# Altium footprint library hsbest2.PcbLib: 365 footprints (part 19 of 23)
Each footprint in its own frame and in the unit in brackets; x right, y up, seen from the top. Pads: shape width x height; smd on the part's side, far side on the other; paste and mask are expansions set on the pad; w line width, h text height; cw(c..) or ccw(c..) is an arc to the next point about the centre after c.
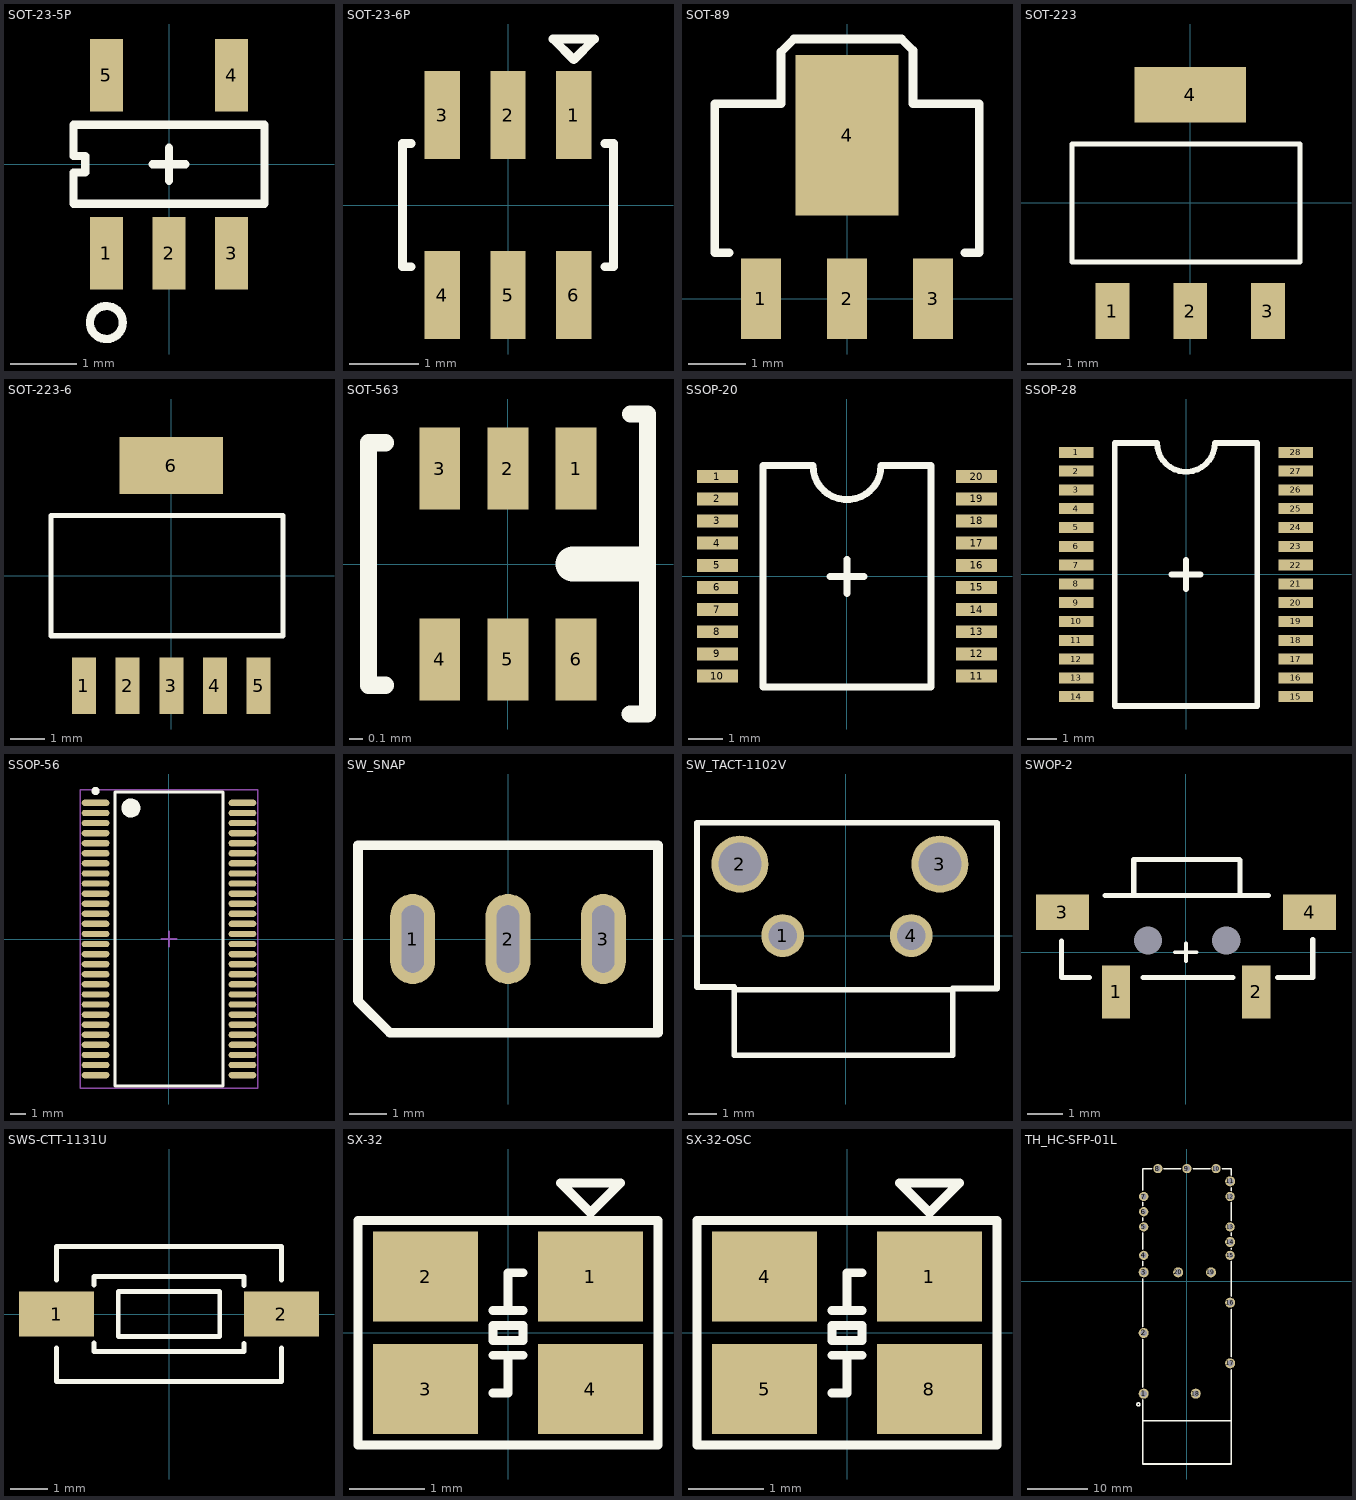
[diagram p18: the footprints below, top view; thin cyan lines are the x and y axes]

## SOT-23-5P [mm]
pads (5):
  rect 0.5x1.1 smd: 1(-0.95,-1.35) 2(0,-1.35) 3(0.95,-1.35) 4(0.95,1.35) 5(-0.95,1.35)
Top Overlay:
  circle w0.125: c-0.95,-2.4 r0.25
  lines w0.125: -0.25,0 0.25,0 ; 0,-0.25 0,0.25 ; -1.45,-0.6 -1.45,-0.125 -1.269,-0.125 -1.269,0.125 -1.45,0.125 -1.45,0.6 1.45,0.6 1.45,-0.6 -1.45,-0.6

## SOT-23-6P [mm]
pads (6):
  rect 0.508x1.27 smd: 1(0.95,1.3) 2(0,1.3) 3(-0.95,1.3) 4(-0.95,-1.3) 5(0,-1.3) 6(0.95,-1.3)
Top Overlay:
  lines w0.125: -1.397,-0.889 -1.524,-0.889 -1.524,0.889 -1.397,0.889 ; 1.397,-0.889 1.524,-0.889 1.524,0.889 1.397,0.889 ; 0.65,2.4 0.95,2.1 1.25,2.4 0.65,2.4

## SOT-89 [mm]
pads (4):
  rect 0.7x1.4 smd: 1(-1.5,0) 2(0,0) 3(1.5,0)
  rect 1.8x2.8 smd: 4(0,2.85)
Top Overlay:
  lines w0.15: -2.05,0.8 -2.3,0.8 -2.3,3.4 -1.15,3.4 -1.15,4.3 -0.925,4.525 0.95,4.525 1.15,4.325 1.15,3.4 2.3,3.4 2.3,0.8 2.05,0.8

## SOT-223 [mm]
pads (4):
  rect 1x1.65 smd: 1(-2.3,-3.2) 2(0,-3.2) 3(2.3,-3.2)
  rect 3.3x1.65 smd: 4(0,3.2)
Top Overlay:
  lines w0.15: -3.5,-1.75 3.25,-1.75 3.25,1.75 -3.5,1.75 -3.5,-1.75

## SOT-223-6 [mm]
pads (6):
  rect 0.7x1.65 smd: 1(-2.54,-3.2) 2(-1.27,-3.2) 3(0,-3.2) 4(1.27,-3.2) 5(2.54,-3.2)
  rect 3x1.65 smd: 6(0,3.2)
Top Overlay:
  lines w0.15: -3.5,-1.75 -3.5,1.75 3.25,1.75 3.25,-1.75 -3.5,-1.75

## SOT-563 [mm]
pads (6):
  rect 0.3x0.6 smd: 1(0.5,0.7) 2(0,0.7) 3(-0.5,0.7) 4(-0.5,-0.7) 5(0,-0.7) 6(0.5,-0.7)
Top Overlay:
  lines w0.125: -0.897,-0.889 -1.024,-0.889 -1.024,0.889 -0.897,0.889 ; 0.897,-1.1 1.024,-1.1 1.024,1.1 ; 0.898,1.1 1.025,1.1
  lines w0.254: 0.475,0 0.95,0

## SSOP-20 [mm]
pads (20):
  rect 1.2x0.38 smd: 1(-3.8,2.925) 2(-3.8,2.275) 3(-3.8,1.625) 4(-3.8,0.975) 5(-3.8,0.325) 6(-3.8,-0.325) 7(-3.8,-0.975) 8(-3.8,-1.625) 9(-3.8,-2.275) 10(-3.8,-2.925) 11(3.8,-2.925) 12(3.8,-2.275) 13(3.8,-1.625) 14(3.8,-0.975) 15(3.8,-0.325) 16(3.8,0.325) 17(3.8,0.975) 18(3.8,1.625) 19(3.8,2.275) 20(3.8,2.925)
Top Overlay:
  lines w0.2: -0.5,0 0.5,0 ; 0,-0.5 0,0.5 ; -2.465,-3.25 2.465,-3.25 2.465,3.25 1,3.25 cw(c0,3.25) -1,3.25 -2.465,3.25 -2.465,-3.25

## SSOP-28 [mm]
pads (28):
  rect 1.2x0.38 smd: 1(-3.8,4.225) 2(-3.8,3.575) 3(-3.8,2.925) 4(-3.8,2.275) 5(-3.8,1.625) 6(-3.8,0.975) 7(-3.8,0.325) 8(-3.8,-0.325) 9(-3.8,-0.975) 10(-3.8,-1.625) 11(-3.8,-2.275) 12(-3.8,-2.925) 13(-3.8,-3.575) 14(-3.8,-4.225) 15(3.8,-4.225) 16(3.8,-3.575) 17(3.8,-2.925) 18(3.8,-2.275) 19(3.8,-1.625) 20(3.8,-0.975) 21(3.8,-0.325) 22(3.8,0.325) 23(3.8,0.975) 24(3.8,1.625) 25(3.8,2.275) 26(3.8,2.925) 27(3.8,3.575) 28(3.8,4.225)
Top Overlay:
  lines w0.2: -0.5,0 0.5,0 ; 0,-0.5 0,0.5 ; -2.465,-4.55 -2.465,4.55 -1,4.55 ccw(c0,4.55) 1,4.55 2.465,4.55 2.465,-4.55 -2.465,-4.55

## SSOP-56 [mm] "SOP, 56-Leads, Body 18.4x7.5mm, Pitch 0.635mm, IPC High Density"
height 2.8
pads (56):
  oval 1.75x0.4 smd: 1(-4.625,8.572) 2(-4.625,7.938) 3(-4.625,7.302) 4(-4.625,6.667) 5(-4.625,6.032) 6(-4.625,5.397) 7(-4.625,4.763) 8(-4.625,4.127) 9(-4.625,3.492) 10(-4.625,2.857) 11(-4.625,2.222) 12(-4.625,1.587) 13(-4.625,0.953) 14(-4.625,0.318) 15(-4.625,-0.318) 16(-4.625,-0.953) 17(-4.625,-1.587) 18(-4.625,-2.222) 19(-4.625,-2.857) 20(-4.625,-3.492) 21(-4.625,-4.127) 22(-4.625,-4.763) 23(-4.625,-5.397) 24(-4.625,-6.032) 25(-4.625,-6.667) 26(-4.625,-7.302) 27(-4.625,-7.938) 28(-4.625,-8.572) 29(4.625,-8.572) 30(4.625,-7.938) 31(4.625,-7.302) 32(4.625,-6.667) 33(4.625,-6.032) 34(4.625,-5.397) 35(4.625,-4.763) 36(4.625,-4.127) 37(4.625,-3.492) 38(4.625,-2.857) 39(4.625,-2.222) 40(4.625,-1.587) 41(4.625,-0.953) 42(4.625,-0.318) 43(4.625,0.318) 44(4.625,0.953) 45(4.625,1.587) 46(4.625,2.222) 47(4.625,2.857) 48(4.625,3.492) 49(4.625,4.127) 50(4.625,4.763) 51(4.625,5.397) 52(4.625,6.032) 53(4.625,6.667) 54(4.625,7.302) 55(4.625,7.938) 56(4.625,8.572)
Top Overlay:
  circle w0.25: c-4.625,9.323 r0.125
  circle w0.6: c-2.4,8.25 r0.3
  lines w0.2: -3.4,-9.25 -3.4,9.25 3.4,9.25 3.4,-9.25 -3.4,-9.25
Mechanical 15:
  lines w0.1: -0.5,0 0.5,0 ; 0,-0.5 0,0.5 ; -5.6,-9.4 -5.6,9.4 5.6,9.4 5.6,-9.4 -5.6,-9.4

## SW_SNAP [mm] "温度传感器"
height 1.25
pads (3):
  oval 1.2x2.4 hole 0.6 slot 1.8 at 90 deg: 1(-2.54,0) 2(0,0) 3(2.54,0)
Top Overlay:
  lines w0.254: -4,-1.65 -4,2.5 4,2.5 4,-2.5 -3.15,-2.5 -4,-1.65

## SW_TACT-1102V [mm]
pads (4):
  rrect100% 1.5x1.5 hole 1: 1(-2.214,0) 4(2.286,0)
  rrect100% 2x2 hole 1.5: 2(-3.714,2.5) 3(3.286,2.5)
Top Overlay:
  lines w0.2: -3.914,-4.191 3.736,-4.191 3.736,-3.9 3.736,-4 3.736,-1.95 ; -3.914,-4.1 -3.914,-1.8 -5.214,-1.8 -5.214,3.95 5.286,3.95 5.286,-1.85 3.736,-1.85 3.686,-1.9 -3.914,-1.9

## SWOP-2 [mm]
pads (6):
  rect 0.8x1.5 smd: 1(-1.98,-1.13) 2(1.99,-1.13)
  rect 1.5x1 smd: 3(-3.5,1.13) 4(3.5,1.13)
  round 0.025 hole 0.8 unplated: 5(-1.08,0.33) 6(1.14,0.33)
Top Overlay:
  lines w0.1: -0.32,0 0.31,0 ; 0,-0.254 0,0.254
  lines w0.15: -3.53,0.304 -3.53,-0.72 -2.742,-0.72 ; -2.286,1.6 2.338,1.6 ; -1.218,-0.72 1.322,-0.72 ; 2.592,-0.72 3.59,-0.72 3.59,0.348 ; -1.48,1.62 -1.48,2.61 ; -1.48,1.62 -1.48,2.61 ; -1.48,1.62 -1.48,2.61 ; -1.48,1.62 -1.48,2.61 ; -1.48,1.62 -1.48,2.61 ; -1.48,1.62 -1.48,2.61 ; -1.48,1.62 -1.48,2.61 ; -1.48,1.62 -1.48,2.61 ; -1.48,2.62 1.51,2.62 ; -1.48,2.62 1.51,2.62 ; -1.48,2.62 1.51,2.62 ; -1.48,2.62 1.51,2.62 ; -1.48,2.62 1.51,2.62 ; -1.48,2.62 1.51,2.62 ; -1.48,2.62 1.51,2.62 ; -1.48,2.62 1.51,2.62 ; 1.53,1.61 1.53,2.61 ; 1.53,1.61 1.53,2.61 ; 1.53,1.61 1.53,2.61 ; 1.53,1.61 1.53,2.61 ; 1.53,1.61 1.53,2.61 ; 1.53,1.61 1.53,2.61 ; 1.53,1.61 1.53,2.61 ; 1.53,1.61 1.53,2.61

## SWS-CTT-1131U [mm]
pads (2):
  rect 2x1.2 smd: 1(-3,0) 2(3,0)
Top Overlay:
  lines w0.125: -3,-0.9 -3,-1.8 3,-1.8 3,-0.9 ; -3,0.9 -3,1.8 3,1.8 3,0.9 ; -2,-0.769 -2,-1 2,-1 2,-0.779 ; -2,0.767 -2,1 2,1 2,0.762 ; -1.35,-0.6 1.35,-0.6 1.35,0.6 -1.35,0.6 -1.35,-0.6

## SX-32 [mm]
height 0.6
pads (4):
  rect 1.4x1.2 smd: 1(1.1,0.75) 2(-1.1,0.75) 3(-1.1,-0.75) 4(1.1,-0.75)
Top Overlay:
  lines w0.12: -0.2,-0.8 0,-0.8 0,-0.3 ; -0.2,-0.3 0.2,-0.3 ; -0.2,0.3 0.2,0.3 ; 0,0.3 0,0.8 0.2,0.8 ; -2,-1.5 -2,1.5 ; -2,-1.5 2,-1.5 ; -2,-1.5 -2,1.5 ; -2,-1.5 2,-1.5 ; -2,1.5 2,1.5 ; -2,1.5 2,1.5 ; 2,-1.5 2,1.5 ; 2,-1.5 2,1.5 ; -0.2,-0.1 0.2,-0.1 0.2,0.1 -0.2,0.1 -0.2,-0.1 ; 0.7,2 1.1,1.6 1.5,2 0.7,2

## SX-32-OSC [mm]
height 0.6
pads (4):
  rect 1.4x1.2 smd: 1(1.1,0.75) 4(-1.1,0.75) 5(-1.1,-0.75) 8(1.1,-0.75)
Top Overlay:
  lines w0.12: -0.2,-0.8 0,-0.8 0,-0.3 ; -0.2,-0.3 0.2,-0.3 ; -0.2,0.3 0.2,0.3 ; 0,0.3 0,0.8 0.2,0.8 ; -2,-1.5 -2,1.5 ; -2,-1.5 2,-1.5 ; -2,-1.5 -2,1.5 ; -2,-1.5 2,-1.5 ; -2,1.5 2,1.5 ; -2,1.5 2,1.5 ; 2,-1.5 2,1.5 ; 2,-1.5 2,1.5 ; -0.2,-0.1 0.2,-0.1 0.2,0.1 -0.2,0.1 -0.2,-0.1 ; 0.7,2 1.1,1.6 1.5,2 0.7,2

## TH_HC-SFP-01L [mm]
pads (20):
  round 1.65 hole 1.05 paste+0 mask+0.05: 1(-7.125,-18.55) 2(-7.125,-8.55) 3(-7.125,1.45) 11(7.125,16.45) 14(7.125,6.45) 16(7.125,-3.55) 17(7.125,-13.55) 18(1.455,-18.55) 19(3.955,1.45) 20(-1.445,1.45)
  round 1.524 hole 0.95 paste+0 mask+0.05: 4(-7.125,4.25) 5(-7.125,8.95) 7(-7.125,13.95) 8(-4.795,18.55) 9(0.005,18.55) 10(4.805,18.55) 12(7.125,13.95) 13(7.125,8.95) 15(7.125,4.25)
  round 1.524 hole 0.85 paste+0 mask+0.05: 6(-7.125,11.45)
Top Overlay:
  circle w0.254: c-8.001,-20.32 r0.254
  lines w0.254: -7.3,-19.6 -7.3,-30.15 7.3,-30.15 7.3,-14.65 ; -7.3,-17.5 -7.3,-9.6 ; -7.3,-7.5 -7.3,0.4 ; -7.3,2.5 -7.3,3.263 ; -7.3,5.237 -7.3,7.963 ; -7.3,9.937 -7.3,10.463 ; -7.3,12.437 -7.3,12.963 ; -7.3,14.95 -7.3,18.55 -5.811,18.55 ; -7.239,-23.05 7.239,-23.05 ; -3.779,18.55 -0.985,18.55 ; 1.047,18.55 3.841,18.55 ; 5.8,18.55 7.3,18.55 7.3,17.45 ; 7.3,-12.5 7.3,-4.6 ; 7.3,-2.5 7.3,3.263 ; 7.3,5.237 7.3,5.4 ; 7.3,7.5 7.3,7.963 ; 7.3,9.937 7.3,12.963 ; 7.3,14.937 7.3,15.4